# Altium footprint library ON Semi MOSFETs.PcbLib: 92 footprints (part 2 of 6)
Each footprint in its own frame and in the unit in brackets; x right, y up, seen from the top. Pads: shape width x height; smd on the part's side, far side on the other; paste and mask are expansions set on the pad; w line width, h text height; cw(c..) or ccw(c..) is an arc to the next point about the centre after c.
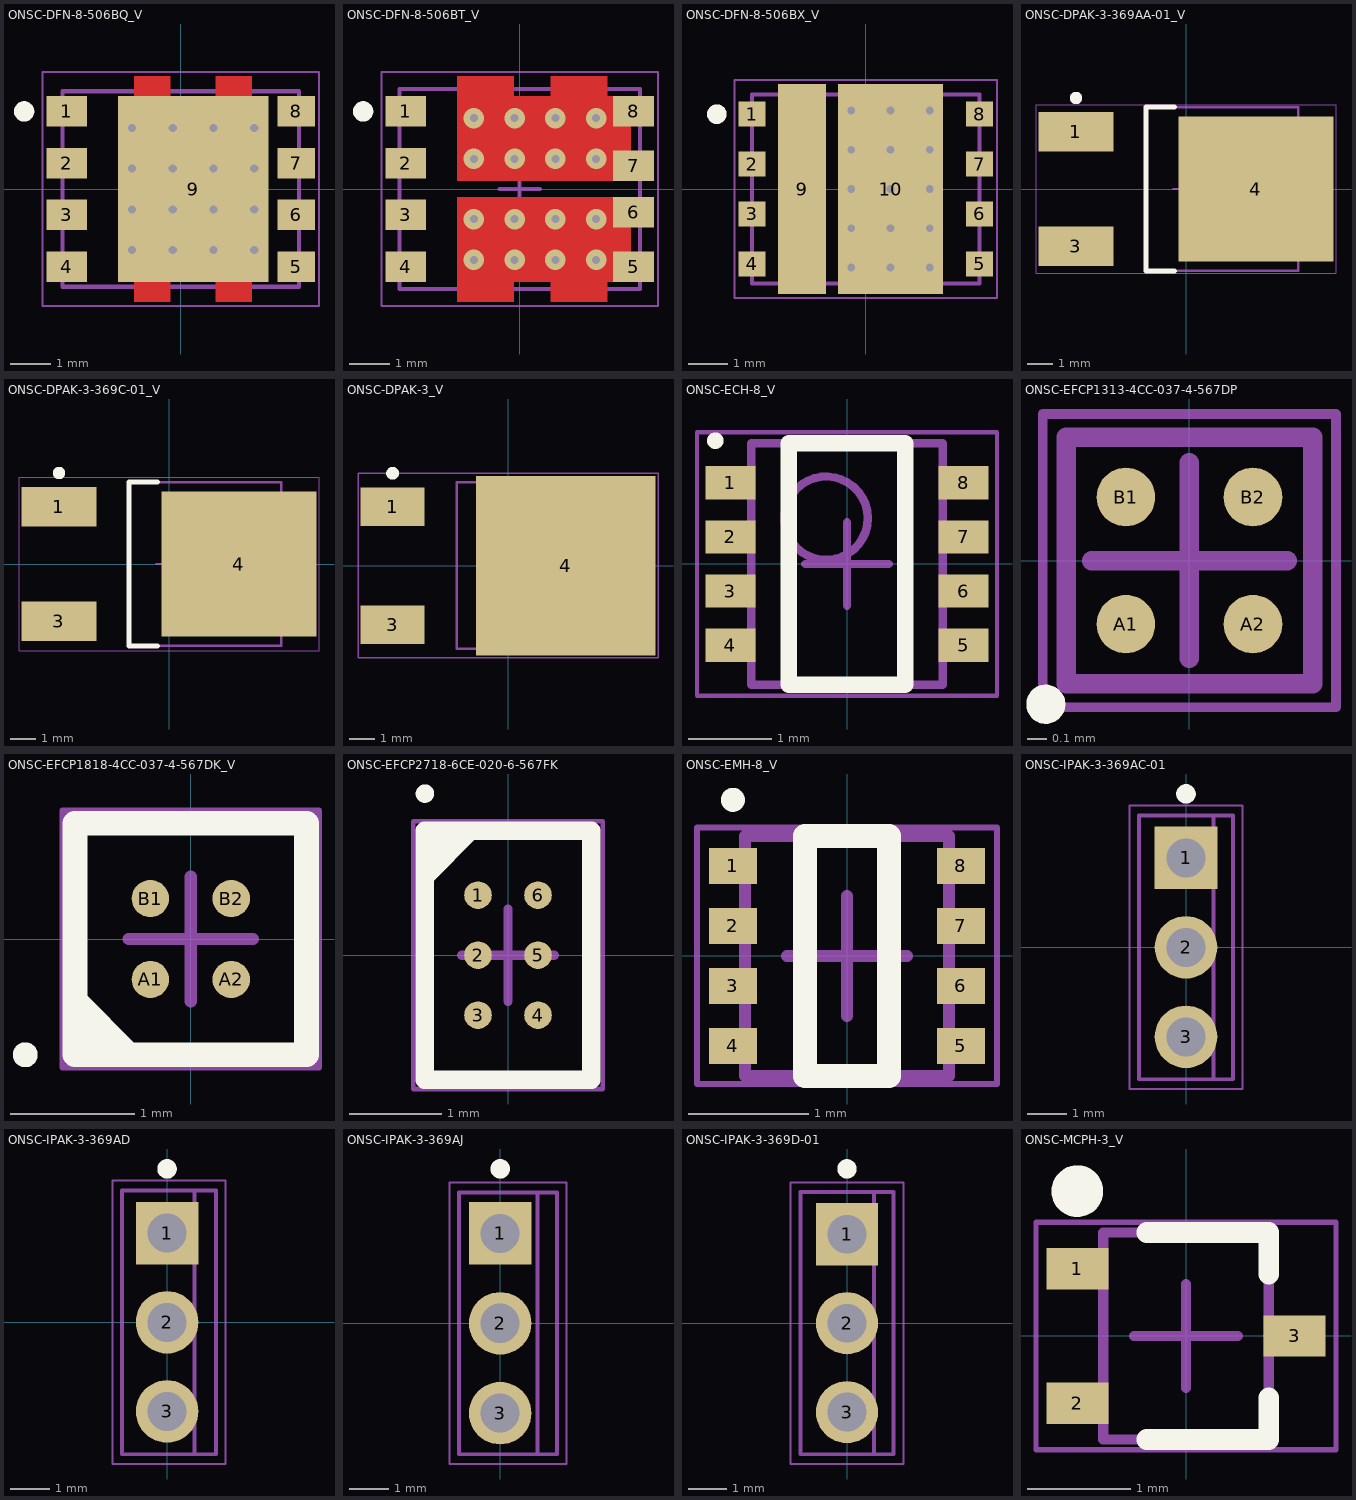
[diagram p1: the footprints below, top view; thin cyan lines are the x and y axes]

## ONSC-DFN-8-506BQ_V [mm] "SON, 8-Leads, Body 6.15x5.15mm, Pitch 1.27mm, Thermal Pad 4.56x3.7mm"
height 1.1
pads (9):
  rect 1x0.75 smd: 1(-2.795,1.905) 2(-2.795,0.635) 3(-2.795,-0.635) 4(-2.795,-1.905)
  rect 0.92x0.75 smd: 5(2.835,-1.905) 6(2.835,-0.635) 7(2.835,0.635) 8(2.835,1.905)
  rect 3.7x4.56 smd: 9(0.305,0)
via 1.805,-1.5 diameter 0.5 hole 0.2
via 1.805,0.5 diameter 0.5 hole 0.2
via 1.805,1.5 diameter 0.5 hole 0.2
via 0.805,-0.5 diameter 0.5 hole 0.2
via -1.195,1.5 diameter 0.5 hole 0.2
via -0.195,1.5 diameter 0.5 hole 0.2
via 0.805,-1.5 diameter 0.5 hole 0.2
via -0.195,-1.5 diameter 0.5 hole 0.2
via 1.805,-0.5 diameter 0.5 hole 0.2
via 0.805,0.5 diameter 0.5 hole 0.2
via -0.195,0.5 diameter 0.5 hole 0.2
via -0.195,-0.5 diameter 0.5 hole 0.2
via -1.195,-1.5 diameter 0.5 hole 0.2
via -1.195,-0.5 diameter 0.5 hole 0.2
via -1.195,0.5 diameter 0.5 hole 0.2
via 0.805,1.5 diameter 0.5 hole 0.2
Top Layer:
  rectangle: 0.855,-2.775 1.755,2.775
  rectangle: -1.145,-2.775 -0.245,2.775
Top Overlay:
  circle w0.25: c-3.845,1.905 r0.125
Mechanical 13:
  lines w0.1: -2.9,-2.4 -2.9,2.4 2.9,2.4 2.9,-2.4 -2.9,-2.4
Mechanical 15:
  lines w0.05: -3.395,-2.875 -3.395,2.875 3.395,2.875 3.395,-2.875 -3.395,-2.875
  lines w0.1: -0.5,0 0.5,0 ; 0,-0.5 0,0.5
3D body: height 1.1, standoff 0, extent -2.9,-2.4 2.9,2.4

## ONSC-DFN-8-506BT_V [mm] "DFN, 8-Leads, Body 5.9x4.9mm, Pitch 1.27mm"
height 1.1
pads (8):
  rect 1x0.75 smd: 1(-2.795,1.905) 2(-2.795,0.635) 3(-2.795,-0.635) 4(-2.795,-1.905) 5(2.795,-1.905) 6(2.795,-0.575) 7(2.795,0.575) 8(2.795,1.905)
via 1.875,1.74 diameter 0.5 hole 0.2
via 1.875,0.74 diameter 0.5 hole 0.2
via 1.875,-0.74 diameter 0.5 hole 0.2
via 1.875,-1.74 diameter 0.5 hole 0.2
via -0.125,-1.74 diameter 0.5 hole 0.2
via -0.125,-0.74 diameter 0.5 hole 0.2
via -1.125,-0.74 diameter 0.5 hole 0.2
via -1.125,-1.74 diameter 0.5 hole 0.2
via 0.875,-0.74 diameter 0.5 hole 0.2
via 0.875,-1.74 diameter 0.5 hole 0.2
via 0.875,1.74 diameter 0.5 hole 0.2
via 0.875,0.74 diameter 0.5 hole 0.2
via -1.125,1.74 diameter 0.5 hole 0.2
via -1.125,0.74 diameter 0.5 hole 0.2
via -0.125,0.74 diameter 0.5 hole 0.2
via -0.125,1.74 diameter 0.5 hole 0.2
Top Layer:
  region: 2.735,0.2 2.735,2.28 -1.545,2.28 -1.545,0.2
  region: 2.155,0.2 2.155,2.775 0.755,2.775 0.755,0.2
  region: -0.145,0.2 -0.145,2.775 -1.545,2.775 -1.545,0.2
  region: -1.545,-0.2 -1.545,-2.775 -0.145,-2.775 -0.145,-0.2
  region: 0.755,-0.2 0.755,-2.775 2.155,-2.775 2.155,-0.2
  region: -1.545,-0.2 -1.545,-2.28 2.735,-2.28 2.735,-0.2
Top Overlay:
  circle w0.25: c-3.845,1.905 r0.125
Mechanical 13:
  lines w0.1: -2.95,-2.45 -2.95,2.45 2.95,2.45 2.95,-2.45 -2.95,-2.45
Mechanical 15:
  lines w0.05: -3.395,-2.875 -3.395,2.875 3.395,2.875 3.395,-2.875 -3.395,-2.875
  lines w0.1: -0.5,0 0.5,0 ; 0,-0.5 0,0.5
3D body: height 1.1, standoff 0, extent -2.95,-2.45 2.95,2.45

## ONSC-DFN-8-506BX_V [mm] "SON, 8-Leads, Body 5.8x4.8mm, Pitch 1.27mm"
height 1.1
pads (10):
  rect 0.69x0.64 smd: 1(-2.895,1.905) 2(-2.895,0.635) 3(-2.895,-0.635) 4(-2.895,-1.905) 5(2.895,-1.905) 6(2.895,-0.635) 7(2.895,0.635) 8(2.895,1.905)
  rect 1.22x5.35 smd: 9(-1.62,0)
  rect 2.68x5.35 smd: 10(0.63,0)
via -0.37,0 diameter 0.5 hole 0.2
via -0.37,2 diameter 0.5 hole 0.2
via -0.37,-1 diameter 0.5 hole 0.2
via -0.37,-2 diameter 0.5 hole 0.2
via -0.37,1 diameter 0.5 hole 0.2
via 1.63,-1 diameter 0.5 hole 0.2
via 1.63,-2 diameter 0.5 hole 0.2
via 1.63,2 diameter 0.5 hole 0.2
via 1.63,1 diameter 0.5 hole 0.2
via 1.63,0 diameter 0.5 hole 0.2
via 0.63,1 diameter 0.5 hole 0.2
via 0.63,-2 diameter 0.5 hole 0.2
via 0.63,-1 diameter 0.5 hole 0.2
via 0.63,2 diameter 0.5 hole 0.2
via 0.63,0 diameter 0.5 hole 0.2
Top Overlay:
  circle w0.25: c-3.79,1.905 r0.125
Mechanical 13:
  lines w0.1: -2.9,-2.4 2.9,-2.4 2.9,2.4 -2.9,2.4 -2.9,-2.4
Mechanical 15:
  lines w0.05: -3.34,-2.775 3.34,-2.775 3.34,2.775 -3.34,2.775 -3.34,-2.775
  lines w0.1: -0.5,0 0.5,0 ; 0,-0.5 0,0.5
3D body: height 1.1, standoff 0, extent -2.9,-2.4 2.9,2.4

## ONSC-DPAK-3-369AA-01_V [mm] "DPAK, 3-Leads, Body 6.54x6.095mm, Pitch 2.29mm"
height 2.47
pads (3):
  rect 3x1.6 smd: 1(-4.4,2.29) 3(-4.4,-2.29)
  rect 6.2x5.8 smd: 4(2.8,0)
Top Overlay:
  circle w0.25: c-4.4,3.64 r0.125
  lines w0.2: -0.453,-3.27 -1.6,-3.27 -1.6,3.27 -0.453,3.27
Mechanical 13:
  lines w0.1: -1.6,-3.27 4.495,-3.27 4.495,3.27 -1.6,3.27 -1.6,-3.27
Mechanical 15:
  lines w0.05: 5.99,-3.37 -6,-3.37 -6,3.37 5.99,3.37 ; 6,-3.37 6,3.37
  lines w0.1: -0.5,0 0.5,0 ; 0,-0.5 0,0.5
3D body: height 2.47, standoff 0, extent -1.6,-3.27 4.495,3.27

## ONSC-DPAK-3-369C-01_V [mm] "DPAK, 3-Leads, Body 6.54x6.095mm, Pitch 2.29mm"
height 2.38
pads (3):
  rect 3x1.6 smd: 1(-4.4,2.29) 3(-4.4,-2.29)
  rect 6.2x5.8 smd: 4(2.8,0)
Top Overlay:
  circle w0.25: c-4.4,3.64 r0.125
  lines w0.2: -0.453,-3.27 -1.6,-3.27 -1.6,3.27 -0.453,3.27
Mechanical 13:
  lines w0.1: -1.6,-3.27 4.495,-3.27 4.495,3.27 -1.6,3.27 -1.6,-3.27
Mechanical 15:
  lines w0.05: -6,-3.465 6,-3.465 6,3.465 -6,3.465 -6,-3.465
  lines w0.1: -0.5,0 0.5,0 ; 0,-0.5 0,0.5
3D body: height 2.38, standoff 0, extent -1.6,-3.27 4.495,3.27

## ONSC-DPAK-3_V [mm] "DPAK, 3-Leads, Body 6.5x5.5mm, Pitch 2.3mm"
height 2.5
pads (3):
  rect 2.5x1.5 smd: 1(-4.5,2.3) 3(-4.5,-2.3)
  rect 7x7 smd: 4(2.25,0)
Top Overlay:
  circle w0.25: c-4.5,3.6 r0.125
Mechanical 13:
  lines w0.1: -2,-3.25 -2,3.25 3.5,3.25 3.5,-3.25 -2,-3.25
Mechanical 15:
  lines w0.05: -5.85,-3.6 -5.85,3.6 5.85,3.6 5.85,-3.6 -5.85,-3.6
  lines w0.1: -0.5,0 0.5,0 ; 0,-0.5 0,0.5
3D body: height 2.5, standoff 0, extent -2,-3.25 3.5,3.25

## ONSC-ECH-8_V [mm] "SOT23, 8-Leads, Body 2.9x2.3mm, Pitch 0.65mm"
height 0.95
pads (8):
  rect 0.6x0.4 smd: 1(-1.4,0.975) 2(-1.4,0.325) 3(-1.4,-0.325) 4(-1.4,-0.975) 5(1.4,-0.975) 6(1.4,-0.325) 7(1.4,0.325) 8(1.4,0.975)
Top Overlay:
  circle w0.1: c-1.58,1.48 r0.05
  lines w0.2: -0.7,-1.45 0.7,-1.45 0.7,1.45 -0.7,1.45 -0.7,-1.45
Mechanical 13:
  circle w0.1: c-0.25,0.55 r0.5
  lines w0.1: -1.15,-1.45 -1.15,1.45 1.15,1.45 1.15,-1.45 -1.15,-1.45
Mechanical 15:
  lines w0.05: -1.8,-1.58 1.8,-1.58 1.8,1.58 -1.8,1.58 -1.8,-1.58
  lines w0.1: -0.5,0 0.5,0 ; 0,-0.5 0,0.5
3D body: height 0.95, standoff 0, extent -1.15,-1.45 1.15,1.45

## ONSC-EFCP1313-4CC-037-4-567DP [mm] "BGA, 4-Balls, Body 1.26x1.26mm, Pitch 0.65mm"
height 0.43
pads (4):
  round 0.3 smd: A1(-0.325,-0.325) A2(0.325,-0.325) B1(-0.325,0.325) B2(0.325,0.325)
Top Overlay:
  circle w0.1: c-0.735,-0.735 r0.05
Mechanical 13:
  lines w0.1: -0.63,-0.63 0.63,-0.63 0.63,0.63 -0.63,0.63 -0.63,-0.63
Mechanical 15:
  lines w0.05: -0.75,-0.75 0.75,-0.75 0.75,0.75 -0.75,0.75 -0.75,-0.75
  lines w0.1: -0.5,0 0.5,0 ; 0,-0.5 0,0.5
3D body: height 0.43, standoff 0.11, extent -0.63,-0.63 0.63,0.63

## ONSC-EFCP1818-4CC-037-4-567DK_V [mm] "BGA, 4-Balls, Body 1.81x1.81mm, Pitch 0.65mm"
height 0.43
pads (4):
  round 0.3 smd: A1(-0.325,-0.325) A2(0.325,-0.325) B1(-0.325,0.325) B2(0.325,0.325)
Top Overlay:
  circle w0.1: c-1.33,-0.93 r0.05
  region: -0.498,-0.93 -0.93,-0.498 -0.93,-0.93
  lines w0.2: -0.93,-0.498 -0.498,-0.93 ; -0.93,-0.93 0.93,-0.93 0.93,0.93 -0.93,0.93 -0.93,-0.93
Mechanical 13:
  lines w0.1: -0.905,-0.905 0.905,-0.905 0.905,0.905 -0.905,0.905 -0.905,-0.905
Mechanical 15:
  lines w0.05: -1.03,-1.03 1.03,-1.03 1.03,1.03 -1.03,1.03 -1.03,-1.03
  lines w0.1: -0.5,0 0.5,0 ; 0,-0.5 0,0.5
3D body: height 0.43, standoff 0.11, extent -0.905,-0.905 0.905,0.905

## ONSC-EFCP2718-6CE-020-6-567FK [mm] "BGA, 6-Balls, Body 2.7x1.81mm, Pitch 0.65mm"
height 0.22
pads (6):
  round 0.3 smd: 1(-0.325,0.65) 2(-0.325,0) 3(-0.325,-0.65) 4(0.325,-0.65) 5(0.325,0) 6(0.325,0.65)
Top Overlay:
  circle w0.1: c-0.9,1.75 r0.05
  region: -0.9,0.85 -0.4,1.35 -0.9,1.35
  lines w0.2: -0.9,0.85 -0.4,1.35 ; -0.9,-1.35 -0.9,1.35 0.9,1.35 0.9,-1.35 -0.9,-1.35
Mechanical 13:
  lines w0.1: -0.905,-1.35 -0.905,1.35 0.905,1.35 0.905,-1.35 -0.905,-1.35
Mechanical 15:
  lines w0.05: -1.025,-1.45 -1.025,1.45 1.025,1.45 1.025,-1.45 -1.025,-1.45
  lines w0.1: -0.5,0 0.5,0 ; 0,-0.5 0,0.5
3D body: height 0.22, standoff 0, extent -0.905,-1.35 0.905,1.35

## ONSC-EMH-8_V [mm] "SOT23, 8-Leads, Body 2x1.7mm, Pitch 0.5mm"
height 0.78
pads (8):
  rect 0.4x0.3 smd: 1(-0.95,0.75) 2(-0.95,0.25) 3(-0.95,-0.25) 4(-0.95,-0.75) 5(0.95,-0.75) 6(0.95,-0.25) 7(0.95,0.25) 8(0.95,0.75)
Top Overlay:
  circle w0.1: c-0.95,1.3 r0.05
  lines w0.2: -0.35,-1 -0.35,1 0.35,1 0.35,-1 -0.35,-1
Mechanical 13:
  lines w0.1: -0.85,-1 -0.85,1 0.85,1 0.85,-1 -0.85,-1
Mechanical 15:
  lines w0.05: -1.25,-1.07 1.25,-1.07 1.25,1.07 -1.25,1.07 -1.25,-1.07
  lines w0.1: -0.5,0 0.5,0 ; 0,-0.5 0,0.5
3D body: height 0.78, standoff 0, extent -0.85,-1 0.85,1

## ONSC-IPAK-3-369AC-01 [mm] "FM, 3-Leads, Body 6.75x2.4mm, Pitch 2.29mm"
height 7.56
pads (3):
  rect 1.6x1.6 hole 1: 1(0,2.29)
  round 1.6 hole 1: 2(0,0) 3(0,-2.29)
Top Overlay:
  circle w0.25: c0,3.925 r0.125
Mechanical 13:
  lines w0.1: 0.7,-3.375 0.7,3.375 ; -1.2,-3.375 -1.2,3.375 1.2,3.375 1.2,-3.375 -1.2,-3.375
Mechanical 15:
  lines w0.05: -1.45,-3.625 -1.45,3.625 1.45,3.625 1.45,-3.625 -1.45,-3.625
  lines w0.1: -0.5,0 0.5,0 ; 0,-0.5 0,0.5
3D body: height 0, standoff -1.6, extent -0.26,1.895 0.26,2.685
3D body: height 0, standoff -1.6, extent -0.26,-0.395 0.26,0.395
3D body: height 0, standoff -1.6, extent -0.26,-2.685 0.26,-1.895
3D body: height 6.46, standoff 0, extent -1.2,-3.375 1.2,3.375
3D body: height 7.56, standoff 6.46, extent 0.7,-2.5 1.2,2.5

## ONSC-IPAK-3-369AD [mm] "FM, 3-Leads, Body 6.75x2.4mm, Pitch 2.28mm"
height 9.51
pads (3):
  rect 1.6x1.6 hole 1: 1(0,2.28)
  round 1.6 hole 1: 2(0,0) 3(0,-2.28)
Top Overlay:
  circle w0.25: c0,3.925 r0.125
Mechanical 13:
  lines w0.1: 0.7,-3.375 0.7,3.375 ; -1.15,-3.375 -1.15,3.375 1.25,3.375 1.25,-3.375 -1.15,-3.375
Mechanical 15:
  lines w0.05: -1.4,-3.625 -1.4,3.625 1.5,3.625 1.5,-3.625 -1.4,-3.625
  lines w0.1: -0.5,0 0.5,0 ; 0,-0.5 0,0.5
3D body: height 2.1, standoff 0, extent -0.265,1.81 0.265,2.75
3D body: height 0, standoff -1.6, extent -0.265,1.885 0.265,2.675
3D body: height 2.1, standoff 0, extent -0.265,-0.47 0.265,0.47
3D body: height 0, standoff -1.6, extent -0.265,-0.395 0.265,0.395
3D body: height 2.1, standoff 0, extent -0.265,-2.75 0.265,-1.81
3D body: height 0, standoff -1.6, extent -0.265,-2.675 0.265,-1.885
3D body: height 8.41, standoff 2.1, extent -1.15,-3.375 1.25,3.375
3D body: height 9.51, standoff 8.41, extent 0.7,-2.475 1.25,2.475

## ONSC-IPAK-3-369AJ [mm] "FM, 3-Leads, Body 6.7x2.5mm, Pitch 2.3mm"
height 9.1
pads (3):
  rect 1.6x1.6 hole 1: 1(0,2.3)
  round 1.6 hole 1: 2(0,0) 3(0,-2.3)
Top Overlay:
  circle w0.25: c0,3.95 r0.125
Mechanical 13:
  lines w0.1: 0.95,-3.35 0.95,3.35 ; -1.05,-3.35 1.45,-3.35 1.45,3.35 -1.05,3.35 -1.05,-3.35
Mechanical 15:
  lines w0.05: -1.3,-3.6 1.7,-3.6 1.7,3.6 -1.3,3.6 -1.3,-3.6
  lines w0.1: -0.5,0 0.5,0 ; 0,-0.5 0,0.5
3D body: height 9.1, standoff 7.6, extent 0.95,-2.5 1.45,2.5
3D body: height 7.6, standoff 1.4, extent -1.05,-3.35 1.45,3.35
3D body: height 0, standoff -1.6, extent -0.25,-2.6 0.25,-2
3D body: height 1.4, standoff 0, extent -0.25,-2.725 0.25,-1.875
3D body: height 0, standoff -1.6, extent -0.25,-0.3 0.25,0.3
3D body: height 1.4, standoff 0, extent -0.25,-0.425 0.25,0.425
3D body: height 0, standoff -1.6, extent -0.25,2 0.25,2.6
3D body: height 1.4, standoff 0, extent -0.25,1.875 0.25,2.725

## ONSC-IPAK-3-369D-01 [mm] "FM, 3-Leads, Body 6.75x2.4mm, Pitch 2.29mm"
height 8.52
pads (3):
  rect 1.6x1.6 hole 1: 1(0,2.29)
  round 1.6 hole 1: 2(0,0) 3(0,-2.29)
Top Overlay:
  circle w0.25: c0,3.975 r0.125
Mechanical 13:
  lines w0.1: 0.7,-3.375 0.7,3.375 ; -1.2,-3.375 -1.2,3.375 1.2,3.375 1.2,-3.375 -1.2,-3.375
Mechanical 15:
  lines w0.05: -1.45,-3.625 -1.45,3.625 1.45,3.625 1.45,-3.625 -1.45,-3.625
  lines w0.1: -0.5,0 0.5,0 ; 0,-0.5 0,0.5
3D body: height 0.06, standoff 0, extent -0.26,1.77 0.26,2.81
3D body: height 0.58, standoff 0.06, extent -0.26,1.77 0.26,2.81
3D body: height 0.63, standoff 0.58, extent -0.26,1.77 0.26,2.81
3D body: height 0, standoff -1.6, extent -0.26,1.895 0.26,2.685
3D body: height 0.06, standoff 0, extent -0.26,-0.52 0.26,0.52
3D body: height 0.58, standoff 0.06, extent -0.26,-0.52 0.26,0.52
3D body: height 0.63, standoff 0.58, extent -0.26,-0.52 0.26,0.52
3D body: height 0, standoff -1.6, extent -0.26,-0.395 0.26,0.395
3D body: height 0.06, standoff 0, extent -0.26,-2.81 0.26,-1.77
3D body: height 0.58, standoff 0.06, extent -0.26,-2.81 0.26,-1.77
3D body: height 0.63, standoff 0.58, extent -0.26,-2.81 0.26,-1.77
3D body: height 0, standoff -1.6, extent -0.26,-2.685 0.26,-1.895
3D body: height 7.42, standoff 0.63, extent -1.2,-3.375 1.2,3.375
3D body: height 8.52, standoff 7.42, extent 0.7,-2.475 1.2,2.475

## ONSC-MCPH-3_V [mm] "SOT23, 3-Leads, Body 2x1.6mm, Pitch 0.65mm"
height 0.9
pads (3):
  rect 0.6x0.4 smd: 1(-1.05,0.65) 2(-1.05,-0.65) 3(1.05,0)
Top Overlay:
  circle w0.25: c-1.05,1.4 r0.125
  lines w0.2: -0.379,-1 0.8,-1 0.8,-0.6 ; -0.379,1 0.8,1 0.8,0.6
Mechanical 13:
  lines w0.1: -0.8,-1 -0.8,1 0.8,1 0.8,-1 -0.8,-1
Mechanical 15:
  lines w0.05: -1.45,-1.1 -1.45,1.1 1.45,1.1 1.45,-1.1 -1.45,-1.1
  lines w0.1: -0.5,0 0.5,0 ; 0,-0.5 0,0.5
3D body: height 0.9, standoff 0, extent -0.8,-1 0.8,1